# Altium footprint library Power Module.PcbLib: 4 footprints
Each footprint in its own frame and in the unit in brackets; x right, y up, seen from the top. Pads: shape width x height; smd on the part's side, far side on the other; paste and mask are expansions set on the pad; w line width, h text height; cw(c..) or ccw(c..) is an arc to the next point about the centre after c.
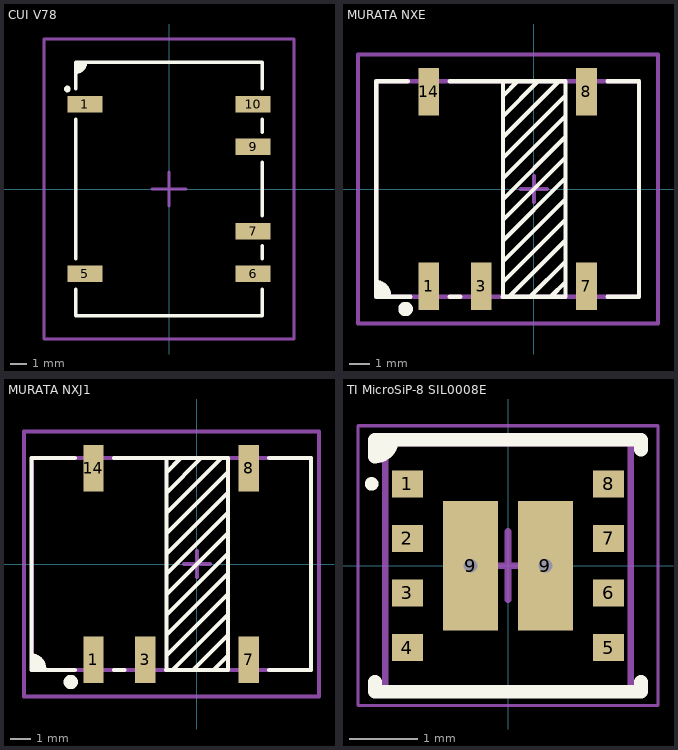
[diagram p0: the footprints below, top view; thin cyan lines are the x and y axes]

## CUI V78 [mm] "Non-isolated switching regulator"
height 7.25
pads (6):
  rect 2.1x1 smd: 1(-5.05,5.08) 5(-5.05,-5.08) 6(5.05,-5.08) 7(5.05,-2.54) 9(5.05,2.54) 10(5.05,5.08)
Top Overlay:
  circle w0.2: c-6.1,6 r0.1
  region: -5,7.6 -5,7.4 -5.4,7 -5.6,7 -5.6,7.6
  lines w0.2: -5.6,-6 -5.6,-7.6 5.6,-7.6 5.6,-6 ; -5.6,-4.2 -5.6,4.2 ; -5.6,6 -5.6,7.6 5.6,7.6 5.6,6 ; -5.6,7 ccw(c-5.6,7.6) -5,7.6 ; 5.6,-4.2 5.6,-3.4 ; 5.6,-1.6 5.6,1.6 ; 5.6,3.4 5.6,4.2
Mechanical 15:
  lines w0.2: -1,0 1,0 ; 0,-1 0,1 ; -7.5,-9 -7.5,9 7.5,9 7.5,-9 -7.5,-9
3D body: height 7.25, standoff 0, extent -5.622,-7.62 5.622,7.62

## MURATA NXE [mm]
height 4.7
pads (5):
  rect 1x2.3 smd: 1(-5.08,-4.7) 3(-2.54,-4.7) 7(2.54,-4.7) 8(2.54,4.7) 14(-5.08,4.7)
Top Overlay:
  circle w0.5: c-6.2,-5.8 r0.1
  region: -7,-5.207 -7,-4.9 -7.4,-4.5 -7.62,-4.5 -7.62,-5.207
  lines w0.2: -7.62,-4.5 cw(c-7.62,-5.12) -7,-5.12 ; -6.096,5.207 -7.62,5.207 -7.62,-5.207 -5.969,-5.207 ; -4.064,-5.207 -3.556,-5.207 ; -4.064,5.207 1.524,5.207 ; -1.5,-4.5 1.5,-1.5 ; -1.5,-3.5 1.5,-0.5 ; -1.5,-2.5 1.5,0.5 ; -1.5,-1.5 1.5,1.5 ; -1.5,-0.5 1.5,2.5 ; -1.5,0.5 1.5,3.5 ; -1.5,1.5 1.5,4.5 ; -1.5,2.5 1.207,5.207 ; -1.5,3.5 0.207,5.207 ; -1.5,4.5 -0.793,5.207 ; -1.5,5.207 -1.5,-5.207 -1.524,-5.207 1.524,-5.207 1.524,5.207 ; -1.207,-5.207 1.5,-2.5 ; -0.183,-5.207 1.524,-3.5 ; 0.817,-5.207 1.524,-4.5 ; 1.524,5.024 1.524,5.207 ; 3.556,-5.207 5.08,-5.207 5.08,5.207 3.556,5.207
Mechanical 1:
  lines w0.2: -7.62,-5.207 5.08,-5.207 5.08,5.207 -7.62,5.207 -7.62,-5.207
Mechanical 15:
  lines w0.2: -0.635,0 0.635,0 ; 0,-0.635 0,0.635 ; -8.5,-6.5 6,-6.5 6,6.5 -8.5,6.5 -8.5,-6.5
3D body: height 4.48, standoff -0.01, extent -7.62,-5.207 5.08,5.207

## MURATA NXJ1 [mm]
height 4.7
pads (5):
  rect 1x2.3 smd: 1(-5.08,-4.7) 3(-2.54,-4.7) 7(2.54,-4.7) 8(2.54,4.7) 14(-5.08,4.7)
Top Overlay:
  circle w0.5: c-6.2,-5.8 r0.1
  region: -7.5,-5.207 -7.5,-4.9 -7.9,-4.5 -8.12,-4.5 -8.12,-5.207
  lines w0.2: -8.12,-4.5 cw(c-8.12,-5.12) -7.5,-5.12 ; -6,-5.207 -8.12,-5.207 -8.12,5.207 -6,5.207 ; -4.064,-5.207 -3.556,-5.207 ; -4.064,5.207 1.524,5.207 ; -1.5,-4.5 1.5,-1.5 ; -1.5,-3.5 1.5,-0.5 ; -1.5,-2.5 1.5,0.5 ; -1.5,-1.5 1.5,1.5 ; -1.5,-0.5 1.5,2.5 ; -1.5,0.5 1.5,3.5 ; -1.5,1.5 1.5,4.5 ; -1.5,2.5 1.207,5.207 ; -1.5,3.5 0.207,5.207 ; -1.5,4.5 -0.793,5.207 ; -1.5,5.207 -1.5,-5.207 -1.524,-5.207 1.524,-5.207 1.524,5.207 ; -1.207,-5.207 1.5,-2.5 ; -0.183,-5.207 1.524,-3.5 ; 0.817,-5.207 1.524,-4.5 ; 1.524,5.024 1.524,5.207 ; 3.556,-5.207 5.6,-5.207 5.6,5.207 3.556,5.207
Mechanical 1:
  lines w0.2: -8.1,-5.207 -8.1,5.207 5.6,5.207 5.6,-5.207 -8.1,-5.207
Mechanical 15:
  lines w0.2: -0.635,0 0.635,0 ; 0,-0.635 0,0.635 ; -8.5,-6.5 -8.5,6.5 6,6.5 6,-6.5 -8.5,-6.5
3D body: height 4.22, standoff 0, extent -8.128,-5.232 5.588,5.232

## TI MicroSiP-8 SIL0008E [mm] "MicroSIP, 8-Leads, Body 3.50x3.50mm, Pitch 0.80mm, Thermal Pad 0.00x0.00mm, IPC Medium Density"
height 1.75
pads (10):
  rect 0.45x0.4 smd: 1(-1.475,1.2) 2(-1.475,0.4) 3(-1.475,-0.4) 4(-1.475,-1.2) 5(1.475,-1.2) 6(1.475,-0.4) 7(1.475,0.4) 8(1.475,1.2)
  rect 0.8x1.9 smd paste-2: 9(-0.55,0) 9(0.55,0)
via -0.55,0 diameter 0.6 hole 0.2
via 0.55,0 diameter 0.6 hole 0.2
Top Overlay:
  circle w0.1: c-2,1.2 r0.05
  region: -1.95,1.85 -1.7,1.85 -1.95,1.6
  lines w0.2: -1.95,-1.7 -1.95,-1.85 1.95,-1.85 1.95,-1.7 ; -1.7,1.85 cw(c-1.95,1.85) -1.95,1.6 -1.95,1.85 1.95,1.85 1.95,1.7
Top Paste:
  rectangle: 0.17,0.145 0.93,0.905
  region: -0.17,0.905 -0.93,0.905 -0.93,0.145 -0.17,0.145
  region: -0.17,-0.145 -0.93,-0.145 -0.93,-0.905 -0.17,-0.905
  rectangle: 0.17,-0.905 0.93,-0.145
Mechanical 13:
  lines w0.1: -1.8,-1.8 -1.8,1.8 1.8,1.8 1.8,-1.8 -1.8,-1.8
Mechanical 15:
  lines w0.05: -2.2,-2.05 -2.2,2.05 2.2,2.05 2.2,-2.05 -2.2,-2.05
  lines w0.1: -0.5,0 0.5,0 ; 0,-0.5 0,0.5
3D body: height 1.75, standoff 0, extent -1.75,-1.75 1.75,1.75